# Altium footprint library 6U4AD_PCB_1212.PcbLib: 41 footprints (part 1 of 3)
Each footprint in its own frame and in the unit in brackets; x right, y up, seen from the top. Pads: shape width x height; smd on the part's side, far side on the other; paste and mask are expansions set on the pad; w line width, h text height; cw(c..) or ccw(c..) is an arc to the next point about the centre after c.
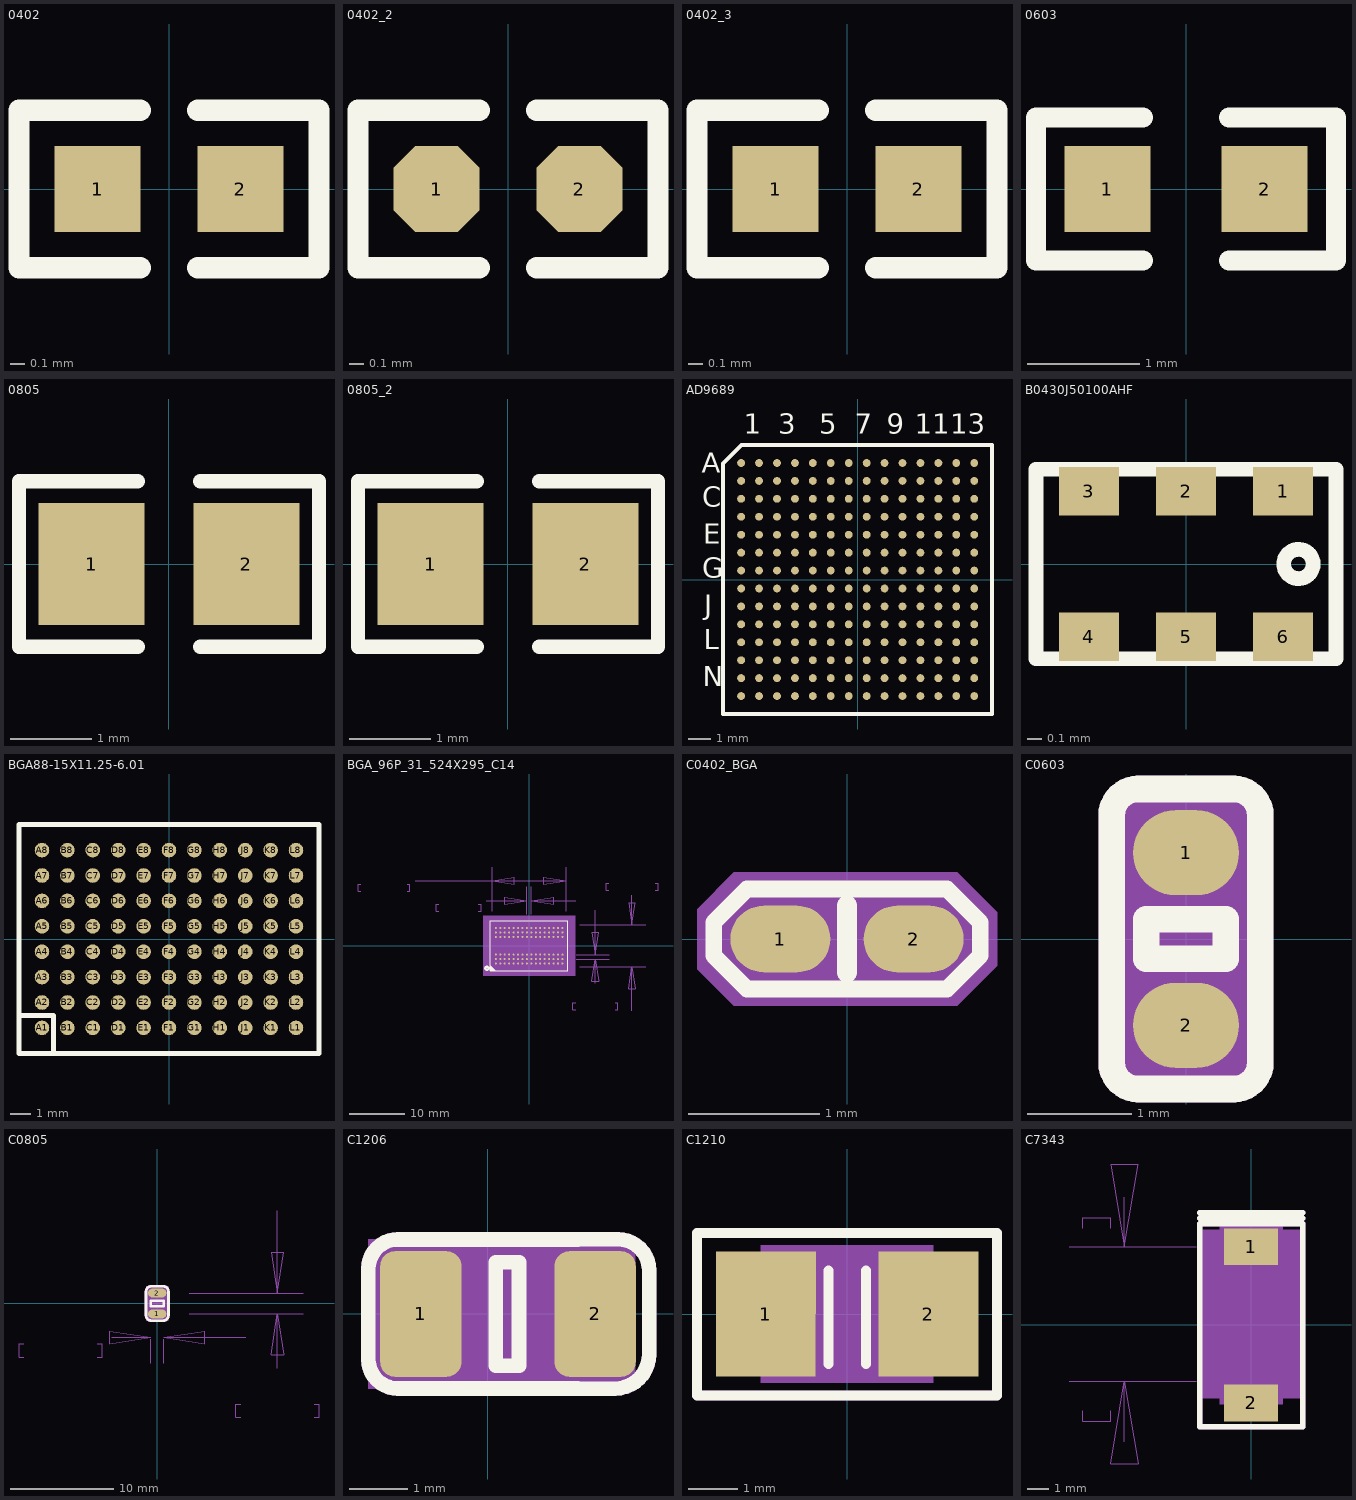
[diagram p0: the footprints below, top view; thin cyan lines are the x and y axes]

## 0402 [mm]
pads (2):
  rect 0.6x0.6 smd: 1(-0.5,0) 2(0.5,0)
Top Overlay:
  lines w0.15: -0.2,-0.55 -1.05,-0.55 -1.05,0.55 -0.2,0.55 ; 0.2,-0.55 1.05,-0.55 1.05,0.55 0.2,0.55

## 0402_2 [mm]
pads (2):
  oct 0.6x0.6 smd: 1(-0.5,0) 2(0.5,0)
Top Overlay:
  lines w0.15: -0.2,-0.55 -1.05,-0.55 -1.05,0.55 -0.2,0.55 ; 0.2,-0.55 1.05,-0.55 1.05,0.55 0.2,0.55

## 0402_3 [mm]
pads (2):
  rect 0.6x0.6 smd: 1(-0.5,0) 2(0.5,0)
Top Overlay:
  lines w0.15: -0.2,-0.55 -1.05,-0.55 -1.05,0.55 -0.2,0.55 ; 0.2,-0.55 1.05,-0.55 1.05,0.55 0.2,0.55

## 0603 [mil] "Chip Inductor, Body 0.6x0.3mm, IPC High Density"
height 21.65
pads (2):
  rect 30x30 smd: 1(-27.5,0) 2(27.5,0)
Top Overlay:
  lines w7: -15,-25 -52.5,-25 -52.5,25 -15,25 ; 15,-25 52.5,-25 52.5,25 15,25

## 0805 [mm]
pads (2):
  rect 1.3x1.5 smd: 1(-0.95,0) 2(0.95,0)
Top Overlay:
  lines w0.178: -0.381,-1.019 -1.841,-1.019 -1.841,1.019 -0.381,1.019 ; 0.381,-1.019 1.842,-1.019 1.842,1.019 0.381,1.019

## 0805_2 [mm]
pads (2):
  rect 1.3x1.5 smd: 1(-0.95,0) 2(0.95,0)
Top Overlay:
  lines w0.178: -0.381,-1.019 -1.841,-1.019 -1.841,1.019 -0.381,1.019 ; 0.381,-1.019 1.842,-1.019 1.842,1.019 0.381,1.019

## AD9689 [mm]
pads (196):
  round 0.35 smd: A1(-5.2,5.2) A2(-4.4,5.2) A3(-3.6,5.2) A4(-2.8,5.2) A5(-2,5.2) A6(-1.2,5.2) A7(-0.4,5.2) A8(0.4,5.2) A9(1.2,5.2) A10(2,5.2) A11(2.8,5.2) A12(3.6,5.2) A13(4.4,5.2) A14(5.2,5.2) B1(-5.2,4.4) B2(-4.4,4.4) B3(-3.6,4.4) B4(-2.8,4.4) B5(-2,4.4) B6(-1.2,4.4) B7(-0.4,4.4) B8(0.4,4.4) B9(1.2,4.4) B10(2,4.4) B11(2.8,4.4) B12(3.6,4.4) B13(4.4,4.4) B14(5.2,4.4) C1(-5.2,3.6) C2(-4.4,3.6) C3(-3.6,3.6) C4(-2.8,3.6) C5(-2,3.6) C6(-1.2,3.6) C7(-0.4,3.6) C8(0.4,3.6) C9(1.2,3.6) C10(2,3.6) C11(2.8,3.6) C12(3.6,3.6) C13(4.4,3.6) C14(5.2,3.6) D1(-5.2,2.8) D2(-4.4,2.8) D3(-3.6,2.8) D4(-2.8,2.8) D5(-2,2.8) D6(-1.2,2.8) D7(-0.4,2.8) D8(0.4,2.8) D9(1.2,2.8) D10(2,2.8) D11(2.8,2.8) D12(3.6,2.8) D13(4.4,2.8) D14(5.2,2.8) E1(-5.2,2) E2(-4.4,2) E3(-3.6,2) E4(-2.8,2) E5(-2,2) E6(-1.2,2) E7(-0.4,2) E8(0.4,2) E9(1.2,2) E10(2,2) E11(2.8,2) E12(3.6,2) E13(4.4,2) E14(5.2,2) F1(-5.2,1.2) F2(-4.4,1.2) F3(-3.6,1.2) F4(-2.8,1.2) F5(-2,1.2) F6(-1.2,1.2) F7(-0.4,1.2) F8(0.4,1.2) F9(1.2,1.2) F10(2,1.2) F11(2.8,1.2) F12(3.6,1.2) F13(4.4,1.2) F14(5.2,1.2) G1(-5.2,0.4) G2(-4.4,0.4) G3(-3.6,0.4) G4(-2.8,0.4) G5(-2,0.4) G6(-1.2,0.4) G7(-0.4,0.4) G8(0.4,0.4) G9(1.2,0.4) G10(2,0.4) G11(2.8,0.4) G12(3.6,0.4) G13(4.4,0.4) G14(5.2,0.4) H1(-5.2,-0.4) H2(-4.4,-0.4) H3(-3.6,-0.4) H4(-2.8,-0.4) H5(-2,-0.4) H6(-1.2,-0.4) H7(-0.4,-0.4) H8(0.4,-0.4) H9(1.2,-0.4) H10(2,-0.4) H11(2.8,-0.4) H12(3.6,-0.4) H13(4.4,-0.4) H14(5.2,-0.4) J1(-5.2,-1.2) J2(-4.4,-1.2) J3(-3.6,-1.2) J4(-2.8,-1.2) J5(-2,-1.2) J6(-1.2,-1.2) J7(-0.4,-1.2) J8(0.4,-1.2) J9(1.2,-1.2) J10(2,-1.2) J11(2.8,-1.2) J12(3.6,-1.2) J13(4.4,-1.2) J14(5.2,-1.2) K1(-5.2,-2) K2(-4.4,-2) K3(-3.6,-2) K4(-2.8,-2) K5(-2,-2) K6(-1.2,-2) K7(-0.4,-2) K8(0.4,-2) K9(1.2,-2) K10(2,-2) K11(2.8,-2) K12(3.6,-2) K13(4.4,-2) K14(5.2,-2) L1(-5.2,-2.8) L2(-4.4,-2.8) L3(-3.6,-2.8) L4(-2.8,-2.8) L5(-2,-2.8) L6(-1.2,-2.8) L7(-0.4,-2.8) L8(0.4,-2.8) L9(1.2,-2.8) L10(2,-2.8) L11(2.8,-2.8) L12(3.6,-2.8) L13(4.4,-2.8) L14(5.2,-2.8) M1(-5.2,-3.6) M2(-4.4,-3.6) M3(-3.6,-3.6) M4(-2.8,-3.6) M5(-2,-3.6) M6(-1.2,-3.6) M7(-0.4,-3.6) M8(0.4,-3.6) M9(1.2,-3.6) M10(2,-3.6) M11(2.8,-3.6) M12(3.6,-3.6) M13(4.4,-3.6) M14(5.2,-3.6) N1(-5.2,-4.4) N2(-4.4,-4.4) N3(-3.6,-4.4) N4(-2.8,-4.4) N5(-2,-4.4) N6(-1.2,-4.4) N7(-0.4,-4.4) N8(0.4,-4.4) N9(1.2,-4.4) N10(2,-4.4) N11(2.8,-4.4) N12(3.6,-4.4) N13(4.4,-4.4) N14(5.2,-4.4) P1(-5.2,-5.2) P2(-4.4,-5.2) P3(-3.6,-5.2) P4(-2.8,-5.2) P5(-2,-5.2) P6(-1.2,-5.2) P7(-0.4,-5.2) P8(0.4,-5.2) P9(1.2,-5.2) P10(2,-5.2) P11(2.8,-5.2) P12(3.6,-5.2) P13(4.4,-5.2) P14(5.2,-5.2)
Top Overlay:
  lines w0.178: -6,-6 6,-6 6,6 -5.156,6 -5.182,6 -6,5.182 -6,-6
  text "5" at -1.707,6.496 h0.89
  text "7" at -0.141,6.496 h0.89
  text "9" at 1.29,6.496 h0.89
  text "11" at 2.548,6.496 h0.89
  text "13" at 4.135,6.496 h0.89
  text "3" at -3.536,6.496 h0.89
  text "N" at -6.915,-4.756 h0.89
  text "L" at -6.876,-3.105 h0.89
  text "G" at -6.934,0.07 h0.89
  text "E" at -6.895,1.594 h0.89
  text "C" at -6.934,3.245 h0.89
  text "A" at -6.953,4.769 h0.89
  text "J" at -6.837,-1.58 h0.89
  text "1" at -5.094,6.496 h0.89

## B0430J50100AHF [mm]
pads (6):
  rect 0.41x0.33 smd: 1(0.66,0.495) 2(0,0.495) 3(-0.66,0.495) 4(-0.66,-0.495) 5(0,-0.495) 6(0.66,-0.495)
Top Overlay:
  circle w0.1: c0.765,0 r0.1
  lines w0.1: -1.02,-0.645 1.02,-0.645 1.02,0.645 -1.02,0.645 -1.02,-0.645

## BGA88-15X11.25-6.01 [mm]
pads (88):
  round 0.73 smd: A1(-6.35,-4.445) A2(-6.35,-3.175) A3(-6.35,-1.905) A4(-6.35,-0.635) A5(-6.35,0.635) A6(-6.35,1.905) A7(-6.35,3.175) A8(-6.35,4.445) B1(-5.08,-4.445) B2(-5.08,-3.175) B3(-5.08,-1.905) B4(-5.08,-0.635) B5(-5.08,0.635) B6(-5.08,1.905) B7(-5.08,3.175) B8(-5.08,4.445) C1(-3.81,-4.445) C2(-3.81,-3.175) C3(-3.81,-1.905) C4(-3.81,-0.635) C5(-3.81,0.635) C6(-3.81,1.905) C7(-3.81,3.175) C8(-3.81,4.445) D1(-2.54,-4.445) D2(-2.54,-3.175) D3(-2.54,-1.905) D4(-2.54,-0.635) D5(-2.54,0.635) D6(-2.54,1.905) D7(-2.54,3.175) D8(-2.54,4.445) E1(-1.27,-4.445) E2(-1.27,-3.175) E3(-1.27,-1.905) E4(-1.27,-0.635) E5(-1.27,0.635) E6(-1.27,1.905) E7(-1.27,3.175) E8(-1.27,4.445) F1(0,-4.445) F2(0,-3.175) F3(0,-1.905) F4(0,-0.635) F5(0,0.635) F6(0,1.905) F7(0,3.175) F8(0,4.445) G1(1.27,-4.445) G2(1.27,-3.175) G3(1.27,-1.905) G4(1.27,-0.635) G5(1.27,0.635) G6(1.27,1.905) G7(1.27,3.175) G8(1.27,4.445) H1(2.54,-4.445) H2(2.54,-3.175) H3(2.54,-1.905) H4(2.54,-0.635) H5(2.54,0.635) H6(2.54,1.905) H7(2.54,3.175) H8(2.54,4.445) J1(3.81,-4.445) J2(3.81,-3.175) J3(3.81,-1.905) J4(3.81,-0.635) J5(3.81,0.635) J6(3.81,1.905) J7(3.81,3.175) J8(3.81,4.445) K1(5.08,-4.445) K2(5.08,-3.175) K3(5.08,-1.905) K4(5.08,-0.635) K5(5.08,0.635) K6(5.08,1.905) K7(5.08,3.175) K8(5.08,4.445) L1(6.35,-4.445) L2(6.35,-3.175) L3(6.35,-1.905) L4(6.35,-0.635) L5(6.35,0.635) L6(6.35,1.905) L7(6.35,3.175) L8(6.35,4.445)
Top Overlay:
  lines w0.254: -7.493,-3.835 -5.765,-3.835 -5.765,-5.715 ; -7.5,-5.715 -7.5,5.715 7.5,5.715 7.5,-5.715 -7.5,-5.715

## BGA_96P_31_524X295_C14 [mil] "BGA_96P_31_524X295_C14"
pads (96):
  round 14 smd: A1(-236.22,-125.98) A2(-236.22,-94.49) A3(-236.22,-62.99) A7(-236.22,62.99) A8(-236.22,94.49) A9(-236.22,125.98) B1(-204.72,-125.98) B2(-204.72,-94.49) B3(-204.72,-62.99) B7(-204.72,62.99) B8(-204.72,94.49) B9(-204.72,125.98) C1(-173.23,-125.98) C2(-173.23,-94.49) C3(-173.23,-62.99) C7(-173.23,62.99) C8(-173.23,94.49) C9(-173.23,125.98) D1(-141.73,-125.98) D2(-141.73,-94.49) D3(-141.73,-62.99) D7(-141.73,62.99) D8(-141.73,94.49) D9(-141.73,125.98) E1(-110.24,-125.98) E2(-110.24,-94.49) E3(-110.24,-62.99) E7(-110.24,62.99) E8(-110.24,94.49) E9(-110.24,125.98) F1(-78.74,-125.98) F2(-78.74,-94.49) F3(-78.74,-62.99) F7(-78.74,62.99) F8(-78.74,94.49) F9(-78.74,125.98) G1(-47.24,-125.98) G2(-47.24,-94.49) G3(-47.24,-62.99) G7(-47.24,62.99) G8(-47.24,94.49) G9(-47.24,125.98) H1(-15.75,-125.98) H2(-15.75,-94.49) H3(-15.75,-62.99) H7(-15.75,62.99) H8(-15.75,94.49) H9(-15.75,125.98) J1(15.75,-125.98) J2(15.75,-94.49) J3(15.75,-62.99) J7(15.75,62.99) J8(15.75,94.49) J9(15.75,125.98) K1(47.24,-125.98) K2(47.24,-94.49) K3(47.24,-62.99) K7(47.24,62.99) K8(47.24,94.49) K9(47.24,125.98) L1(78.74,-125.98) L2(78.74,-94.49) L3(78.74,-62.99) L7(78.74,62.99) L8(78.74,94.49) L9(78.74,125.98) M1(110.24,-125.98) M2(110.24,-94.49) M3(110.24,-62.99) M7(110.24,62.99) M8(110.24,94.49) M9(110.24,125.98) N1(141.73,-125.98) N2(141.73,-94.49) N3(141.73,-62.99) N7(141.73,62.99) N8(141.73,94.49) N9(141.73,125.98) P1(173.23,-125.98) P2(173.23,-94.49) P3(173.23,-62.99) P7(173.23,62.99) P8(173.23,94.49) P9(173.23,125.98) R1(204.72,-125.98) R2(204.72,-94.49) R3(204.72,-62.99) R7(204.72,62.99) R8(204.72,94.49) R9(204.72,125.98) T1(236.22,-125.98) T2(236.22,-94.49) T3(236.22,-62.99) T7(236.22,62.99) T8(236.22,94.49) T9(236.22,125.98)
Top Overlay:
  circle w15: c-300,-160 r11.18
  lines w3.94: -275.98,-142.52 -275.2,-142.52 -241.73,-175.98 -248.82,-175.98 -275.2,-149.61 -275.2,-156.3 -255.12,-176.38 -261.42,-176.38 -274.41,-163.39 -274.41,-170.08 -268.11,-176.38 ; -275.59,-177.16 275.59,-177.16 275.59,177.16 -275.59,177.16 -275.59,-177.16
  text ".Designator" at -306.92,-65.62 h25
Mechanical 5:
  circle w15: c-300,-160 r11.18
  lines w3.94: -275.98,-142.52 -275.2,-142.52 -241.73,-175.98 -248.82,-175.98 -275.2,-149.61 -275.2,-156.3 -255.12,-176.38 -261.42,-176.38 -274.41,-163.39 -274.41,-170.08 -268.11,-176.38 ; -275.59,-177.16 275.59,-177.16 275.59,177.16 -275.59,177.16 -275.59,-177.16
  text "U4" at -362.51,27.5 h25
Mechanical 13:
  lines w1: -1195.67,385.04 -1214.57,385.04 -1214.57,435.04 -1195.67,435.04 ; -864.57,385.04 -845.67,385.04 -845.67,435.04 -864.57,435.04 ; -807.87,459.84 -261.81,459.84 ; -640.16,244.88 -659.06,244.88 -659.06,294.88 -640.16,294.88 ; -359.84,244.88 -340.94,244.88 -340.94,294.88 -359.84,294.88 ; -303.54,320.08 -15.75,320.08 ; -261.81,246.06 -261.81,558.27 ; -15.75,224.41 -15.75,418.5 ; 15.75,224.41 15.75,418.5 ; 261.81,246.06 261.81,558.27 ; 329.92,-455.12 311.02,-455.12 311.02,-405.12 329.92,-405.12 ; 330.71,320.08 15.75,320.08 ; 334.65,-94.49 568.5,-94.49 ; 334.65,-62.99 568.5,-62.99 ; 360.24,-147.64 828.35,-147.64 ; 360.24,147.64 828.35,147.64 ; 470.08,-267.32 470.08,-94.49 ; 470.08,251.97 470.08,-62.99 ; 564.57,394.88 545.67,394.88 545.67,444.88 564.57,444.88 ; 609.84,-455.12 629.13,-455.12 629.13,-405.12 609.84,-405.12 ; 729.92,-462.6 729.92,-147.64 ; 729.92,357.48 729.92,147.64 ; 895.67,394.88 914.57,394.88 914.57,444.88 895.67,444.88 ; -261.81,459.84 -104.33,484.65 -104.33,435.43 -261.81,459.84 ; -261.81,459.84 261.81,459.84 ; -15.75,320.08 -173.23,295.28 -173.23,344.49 -15.75,320.08 ; 15.75,320.08 173.23,344.49 173.23,295.28 15.75,320.08 ; 261.81,459.84 104.33,435.43 104.33,484.65 261.81,459.84 ; 470.08,-94.49 494.49,-251.97 445.28,-251.97 470.08,-94.49 ; 470.08,-62.99 445.28,94.49 494.49,94.49 470.08,-62.99 ; 729.92,-147.64 754.72,-305.12 705.51,-305.12 729.92,-147.64 ; 729.92,147.64 705.51,305.12 754.72,305.12 729.92,147.64
  text "0.8" at -570.08,344.88 h50
  text "31.50" at -620.87,244.88 h50
  text "0.8" at 400,-355.12 h50
  text "31.50" at 348.82,-455.12 h50
  text "13.3" at -1125.59,485.04 h50
  text "523.62" at -1176.38,385.04 h50
  text "7.5" at 659.84,494.88 h50
  text "295.28" at 583.46,394.88 h50
Mechanical 14:
  text "R1" at 204.72,-105.82 h25.2
  text "R9" at 204.72,146.14 h25.2
  text "F1" at -78.74,-105.82 h25.2
  text "D2" at -141.73,-74.33 h25.2
  text "A1" at -236.22,-105.82 h25.2
  text "B2" at -204.72,-74.33 h25.2
  text "C1" at -173.23,-105.82 h25.2
  text "H2" at -15.75,-74.33 h25.2
  text "K8" at 47.24,114.65 h25.2
  text "E9" at -110.24,146.14 h25.2
  text "D9" at -141.73,146.14 h25.2
  text "C9" at -173.23,146.14 h25.2
  text "A8" at -236.22,114.65 h25.2
  text "G7" at -47.24,83.15 h25.2
  text "H9" at -15.75,146.14 h25.2
  text "K2" at 47.24,-74.33 h25.2
  text "N1" at 141.73,-105.82 h25.2
  text "N9" at 141.73,146.14 h25.2
  text "H1" at -15.75,-105.82 h25.2
  text "M8" at 110.24,114.65 h25.2
  text "D3" at -141.73,-42.83 h25.2
  text "E7" at -110.24,83.15 h25.2
  text "M2" at 110.24,-74.33 h25.2
  text "K9" at 47.24,146.14 h25.2
  text "K3" at 47.24,-42.83 h25.2
  text "J7" at 15.75,83.15 h25.2
  text "K7" at 47.24,83.15 h25.2
  text "J3" at 15.75,-42.83 h25.2
  text "L3" at 78.74,-42.83 h25.2
  text "M3" at 110.24,-42.83 h25.2
  text "L2" at 78.74,-74.33 h25.2
  text "N8" at 141.73,114.65 h25.2
  text "L8" at 78.74,114.65 h25.2
  text "C7" at -173.23,83.15 h25.2
  text "G3" at -47.24,-42.83 h25.2
  text "K1" at 47.24,-105.82 h25.2
  text "T7" at 236.22,83.15 h25.2
  text "R2" at 204.72,-74.33 h25.2
  text "R7" at 204.72,83.15 h25.2
  text "L7" at 78.74,83.15 h25.2
  text "H8" at -15.75,114.65 h25.2
  text "B8" at -204.72,114.65 h25.2
  text "T2" at 236.22,-74.33 h25.2
  text "P3" at 173.23,-42.83 h25.2
  text "C8" at -173.23,114.65 h25.2
  text "F2" at -78.74,-74.33 h25.2
  text "N3" at 141.73,-42.83 h25.2
  text "R8" at 204.72,114.65 h25.2
  text "H7" at -15.75,83.15 h25.2
  text "A2" at -236.22,-74.33 h25.2
  text "G2" at -47.24,-74.33 h25.2
  text "N2" at 141.73,-74.33 h25.2
  text "C2" at -173.23,-74.33 h25.2
  text "T3" at 236.22,-42.83 h25.2
  text "P7" at 173.23,83.15 h25.2
  text "T8" at 236.22,114.65 h25.2
  text "D7" at -141.73,83.15 h25.2
  text "C3" at -173.23,-42.83 h25.2
  text "M7" at 110.24,83.15 h25.2
  text "F7" at -78.74,83.15 h25.2
  text "N7" at 141.73,83.15 h25.2
  text "R3" at 204.72,-42.83 h25.2
  text "F8" at -78.74,114.65 h25.2
  text "A7" at -236.22,83.15 h25.2
  text "A3" at -236.22,-42.83 h25.2
  text "E3" at -110.24,-42.83 h25.2
  text "P2" at 173.23,-74.33 h25.2
  text "H3" at -15.75,-42.83 h25.2
  text "P8" at 173.23,114.65 h25.2
  text "F3" at -78.74,-42.83 h25.2
  text "B7" at -204.72,83.15 h25.2
  text "J1" at 15.75,-105.82 h25.2
  text "J9" at 15.75,146.14 h25.2
  text "L1" at 78.74,-105.82 h25.2
  text "L9" at 78.74,146.14 h25.2
  text "B1" at -204.72,-105.82 h25.2
  text "D1" at -141.73,-105.82 h25.2
  text "E2" at -110.24,-74.33 h25.2
  text "E1" at -110.24,-105.82 h25.2
  text "G1" at -47.24,-105.82 h25.2
  text "D8" at -141.73,114.65 h25.2
  text "E8" at -110.24,114.65 h25.2
  text "F9" at -78.74,146.14 h25.2
  text "G9" at -47.24,146.14 h25.2
  text "G8" at -47.24,114.65 h25.2
  text "B3" at -204.72,-42.83 h25.2
  text "B9" at -204.72,146.14 h25.2
  text "A9" at -236.22,146.14 h25.2
  text "J2" at 15.75,-74.33 h25.2
  text "M1" at 110.24,-105.82 h25.2
  text "P1" at 173.23,-105.82 h25.2
  text "T1" at 236.22,-105.82 h25.2
  text "J8" at 15.75,114.65 h25.2
  text "M9" at 110.24,146.14 h25.2
  text "P9" at 173.23,146.14 h25.2
  text "T9" at 236.22,146.14 h25.2
Mechanical 16:
  pour cut-out: -325.98,-211.81 325.98,-211.81 325.98,211.81 -325.98,211.81
  region: -285,-185 285,-185 285,185 -285,185
3D body: height 150, standoff 0, extent -285,-185 285,185

## C0402_BGA [mil] "C0402_BGA"
pads (2):
  oval 30x20 smd: 1(-20,0) 2(20,0)
Top Overlay:
  lines w5: -40,-5 -30,-15 30,-15 40,-5 40,5 30,15 -30,15 -40,5 -40,-5
  lines w6: 0,-10 0,10
Mechanical 5:
  lines w5: -37.5,-7.51 -40,-5 -40,5 -37.5,7.51 ; -32.5,-12.49 -30,-15 30,-15 32.5,-12.49 ; -32.5,12.49 -30,15 30,15 32.5,12.49 ; 37.5,-7.51 40,-5 40,5 37.5,7.51
  lines w6: 0,-10 0,10
Mechanical 14:
  text "1" at -20,-10 h25
  text "2" at 20,-10 h25
Mechanical 16:
  pour cut-out: -34,-20 33,-20 45,-8 45,8 33,20 -34,20 -45,9 -45,-9
  region: 29,-12 36,-5 36,12 -29,12 -37,4 -37,-4 -29,-12
  lines w1: -20,-10 20,-10 20,10 -20,10 -20,-10
  lines w5: -40,-5 -30,-15 30,-15 40,-5 40,5 30,15 -30,15 -40,5 -40,-5
  lines w6: 0,-10 0,10
3D body: height 150, standoff 0, extent -37,-12 36,12

## C0603 [mil] "C0603"
pads (2):
  oval 40x32 smd: 1(0,32.5) 2(0,-32.5)
Top Overlay:
  lines w10: -28,-46.5 ccw(c-18,-46.5) -18,-56.5 18,-56.5 ccw(c18,-46.5) 28,-46.5 28,46.5 ccw(c18,46.5) 18,56.5 -18,56.5 ccw(c-18,46.5) -28,46.5 -28,-46.5 ; -15,-7.5 15,-7.5 15,7.5 -15,7.5 -15,-7.5
Mechanical 5:
  lines w10: -28,-46.5 ccw(c-18,-46.5) -18,-56.5 18,-56.5 ccw(c18,-46.5) 28,-46.5 28,46.5 ccw(c18,46.5) 18,56.5 -18,56.5 ccw(c-18,46.5) -28,46.5 -28,-46.5 ; -15,-7.5 -15,7.5 15,7.5 15,-7.5 -15,-7.5
  text "C1779" at -22.45,112.34 h25
Mechanical 14:
  text "2" at 0,-21.3 h28
  text "1" at 0,43.7 h28
Mechanical 16:
  region: -17.13,-33.46 17.13,-33.46 17.13,33.46 -17.13,33.46
  pour cut-out: 28,56.5 28,-56.5 -28,-56.5 -28,56.5
  lines w1: -17.13,-33.46 17.13,-33.46 17.13,33.46 -17.13,33.46 -17.13,-33.46
Mechanical 17:
  text ".Designator" at 0,60 h36
3D body: height 150, standoff 0, extent -17.13,-33.46 17.13,33.46

## C0805 [mil] "C0805"
pads (2):
  oval 70x35 smd: 1(0,-40) 2(0,40)
Top Overlay:
  lines w10: -43,-45.5 ccw(c-23,-45.5) -23,-65.5 23,-65.5 ccw(c23,-45.5) 43,-45.5 43,45.5 ccw(c23,45.5) 23,65.5 -23,65.5 ccw(c-23,45.5) -43,45.5 -43,-45.5 ; -25,-10 -25,10 25,10 25,-10 -25,-10
Mechanical 5:
  lines w10: -39.99,-56.04 cw(c-23,-45.49) -43,-45.5 -43,45.5 cw(c-23,45.49) -39.99,56.04 ; -33.54,-62.49 ccw(c-22.99,-45.5) -23,-65.5 23,-65.5 ccw(c22.99,-45.5) 33.54,-62.49 ; -33.54,62.49 cw(c-22.99,45.5) -23,65.5 23,65.5 cw(c22.99,45.5) 33.54,62.49 ; 39.99,-56.04 ccw(c23,-45.49) 43,-45.5 43,45.5 ccw(c23,45.49) 39.99,56.04 ; -25,-10 25,-10 25,10 -25,10 -25,-10
  text "C2647" at -66.75,-31.25 h25
Mechanical 13:
  lines w1: -510,-205 -529,-205 -529,-155 -510,-155 ; -230,-205 -211,-205 -211,-155 -230,-155 ; -173.5,-130 -24.61,-130 ; -24.61,-228.43 -24.61,-137.8 ; 24.61,-228.43 24.61,-137.8 ; 123.04,-39.37 558.43,-39.37 ; 123.04,39.37 558.43,39.37 ; 320,-435 301,-435 301,-385 320,-385 ; 339.57,-130 24.61,-130 ; 460,-247.5 460,-39.37 ; 460,354.33 460,39.37 ; 600,-435 619,-435 619,-385 600,-385 ; -24.61,-130 -182.09,-154.6 -182.09,-105.4 -24.61,-130 ; 24.61,-130 182.09,-105.4 182.09,-154.6 24.61,-130 ; 460,-39.37 484.6,-196.85 435.4,-196.85 460,-39.37 ; 460,39.37 435.4,196.85 484.6,196.85 460,39.37
  text "1.25" at -465.5,-105 h36
  text "49.22" at -491,-205 h36
  text "2" at 441,-335 h36
  text "78.74" at 339,-435 h36
Mechanical 14:
  text "2" at 0,28.8 h28
  text "1" at 0,-51.2 h28
Mechanical 16:
  pour cut-out: -43,-65.5 43,-65.5 43,65.5 -43,65.5
  region: -24.61,-39.37 24.61,-39.37 24.61,39.37 -24.61,39.37
  lines w1: -24.61,-39.37 -24.61,39.37 24.61,39.37 24.61,-39.37 -24.61,-39.37
3D body: height 150, standoff 0, extent -24.61,-39.37 24.61,39.37

## C1206 [mil] "C1206"
pads (2):
  rrect36% 55x85 smd: 1(-45.28,0) 2(72.84,0)
Top Overlay:
  lines w9.84: 60.78,-50.5 86.19,-50.5 ccw(c86.19,-27.4) 109.29,-27.4 109.29,29.55 ccw(c88.34,29.55) 88.34,50.5 60.78,50.5
  lines w10: 60.78,-50.5 -60.78,-50.5 cw(c-60.78,-30.5) -80.78,-30.5 -80.78,30.5 cw(c-60.78,30.5) -60.78,50.5 60.78,50.5 ; 5.44,-35 21.18,-35 21.18,35 5.44,35 5.44,-35
Mechanical 5:
  lines w9.84: 60.78,-50.5 86.19,-50.5 ccw(c86.2,-27.4) 97.72,-47.42 ; 60.78,50.5 88.34,50.5 cw(c88.34,29.55) 99.28,47.42 ; 105.26,-40.45 ccw(c86.19,-27.41) 109.29,-27.4 109.29,29.55 ccw(c88.34,29.55) 105.26,41.91
  lines w10: -77.78,-41.04 cw(c-60.78,-30.5) -80.78,-30.5 -80.78,30.5 cw(c-60.78,30.5) -77.78,41.04 ; -71.32,-47.5 ccw(c-60.78,-30.5) -60.78,-50.5 60.78,-50.5 ; -71.32,47.5 cw(c-60.78,30.5) -60.78,50.5 60.78,50.5 ; 5.44,-35 5.44,35 21.18,35 21.18,-35 5.44,-35
Mechanical 14:
  text "1" at -55.28,0 h25
  text "2" at 62.84,0 h25
Mechanical 16:
  pour cut-out: -80.78,-50.5 100,-50.5 100,50.5 -80.78,50.5
  lines w1: -62.99,-31.5 62.99,-31.5 ; -62.99,-31.5 -62.99,31.5 ; -62.99,-31.5 62.99,-31.5 ; -62.99,-31.5 -62.99,31.5 ; -62.99,31.5 62.99,31.5 ; -62.99,31.5 62.99,31.5 ; 62.99,-31.5 62.99,31.5 ; 62.99,-31.5 62.99,31.5

## C1210 [mil] "C1210"
pads (2):
  rect 80x100 smd: 1(-65,0) 2(65,0)
Top Overlay:
  lines w8: -15,-40 -15,35 ; 15,-40 15,35 ; -120,-65 120,-65 120,65 -120,65 -120,-65
Mechanical 5:
  lines w8: -15,-40 -15,35 ; 15,-40 15,35 ; -120,-65 120,-65 120,65 -120,65 -120,-65
Mechanical 14:
  text "2" at 97,0 h80
  text "1" at -33,0 h80
Mechanical 16:
  region: -69,-55 69,-55 69,55 -69,55
3D body: height 150, standoff 0, extent -69,-55 69,55

## C7343 [mil] "C7343"
pads (2):
  rect 98x67 smd: 1(0,141.66) 2(0,-141.66)
Top Overlay:
  lines w9.84: -93.58,-143.79 -93.58,-184.38 93.58,-184.38 93.58,-143.79
  lines w10: -93.58,-143.79 -93.58,183.16 ; -93.58,193.16 93.58,193.16 ; -93.58,203.16 93.58,203.16 ; 93.58,-143.79 93.58,183.16 ; -93.58,183.16 93.58,183.16 ; -93.58,183.16 93.58,183.16
Mechanical 5:
  lines w9.84: -93.58,-143.79 -93.58,-184.38 93.58,-184.38 93.58,-143.79
  lines w10: -93.58,-143.79 -93.58,183.16 ; -93.58,193.16 93.58,193.16 ; -93.58,203.16 93.58,203.16 ; 93.58,-143.79 93.58,183.16 ; -93.58,183.16 93.58,183.16 ; -93.58,183.16 93.58,183.16
  text "CT1" at -30,229.16 h25
Mechanical 13:
  lines w1: -330,-102.3 -100,-102.3 ; -330,141.66 -100,141.66 ; -305,-155.81 -305,-174.81 -255,-174.81 -255,-155.81 ; -305,175.19 -305,194.19 -255,194.19 -255,175.19 ; -230,-212.31 -230,-102.3 ; -230,231.69 -230,141.66 ; -230,-102.3 -205,-252.29 -255,-252.29 -230,-102.3 ; -230,141.66 -255,291.67 -205,291.67 -230,141.66
  text "243.97" at -305,156.19 h25
  text "6.2" at -205,79.69 h25
Mechanical 14:
  text "1" at -10,141.66 h25
  text "2" at -10,-141.66 h25
Mechanical 16:
  pour cut-out: 57,183.16 57,172.32 93.58,172.32 93.58,-132.96 57,-132.96 57,-143.79 -57,-143.79 -57,-132.96 -93.58,-132.96 -93.58,172.32 -57,172.32 -57,183.16
  region: -88.58,167.32 -88.58,-127.95 88.58,-127.95 88.58,167.32
  lines w1: -88.58,-127.95 -88.58,167.32 88.58,167.32 88.58,-127.95 -88.58,-127.95
Mechanical 17:
  text ".Designator" at -30,3.02 h25
3D body: height 150, standoff 0, extent -88.58,-127.95 88.58,167.32